# Altium schematic symbol library SCH - MCU - INFINEON XMC - INFINEON XMC1302T016.SchLib: 1 symbol
Pins are listed as number, name and electrical type; pins without a type are passive.

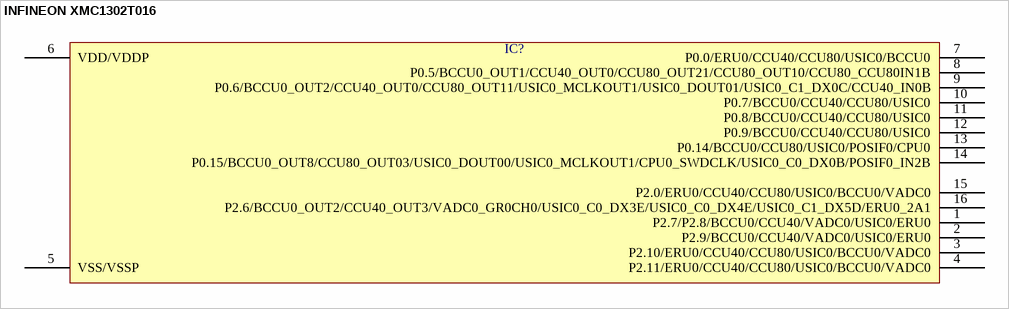
[diagram p0: symbol INFINEON XMC1302T016]

## INFINEON XMC1302T016
designator IC?  (value not drawn)
pins: 1 P2.7/P2.8/BCCU0/CCU40/VADC0/USIC0/ERU0, 2 P2.9/BCCU0/CCU40/VADC0/USIC0/ERU0, 3 P2.10/ERU0/CCU40/CCU80/USIC0/BCCU0/VADC0, 4 P2.11/ERU0/CCU40/CCU80/USIC0/BCCU0/VADC0, 5 VSS/VSSP, 6 VDD/VDDP, 7 P0.0/ERU0/CCU40/CCU80/USIC0/BCCU0, 8 P0.5/BCCU0_OUT1/CCU40_OUT0/CCU80_OUT21/CCU80_OUT10/CCU80_CCU80IN1B, 9 P0.6/BCCU0_OUT2/CCU40_OUT0/CCU80_OUT11/USIC0_MCLKOUT1/USIC0_DOUT01/USIC0_C1_DX0C/CCU40_IN0B, 10 P0.7/BCCU0/CCU40/CCU80/USIC0, 11 P0.8/BCCU0/CCU40/CCU80/USIC0, 12 P0.9/BCCU0/CCU40/CCU80/USIC0, 13 P0.14/BCCU0/CCU80/USIC0/POSIF0/CPU0, 14 P0.15/BCCU0_OUT8/CCU80_OUT03/USIC0_DOUT00/USIC0_MCLKOUT1/CPU0_SWDCLK/USIC0_C0_DX0B/POSIF0_IN2B, 15 P2.0/ERU0/CCU40/CCU80/USIC0/BCCU0/VADC0, 16 P2.6/BCCU0_OUT2/CCU40_OUT3/VADC0_GR0CH0/USIC0_C0_DX3E/USIC0_C0_DX4E/USIC0_C1_DX5D/ERU0_2A1